# Altium integrated library ST Video TV Interface Circuit.IntLib: 3 symbols
Pins are listed as number, name and electrical type; pins without a type are passive.

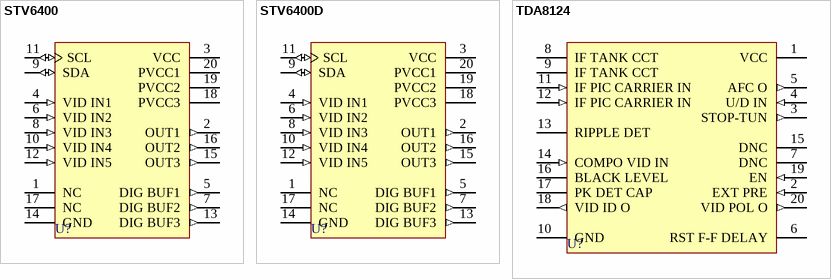
[diagram p0: symbols STV6400 to TDA8124]

## STV6400
designator U?
Double SCART Interface; Published: 24-Aug-2001; LatestRevisionDate: 17-Jul-2002; LatestRevisionNote: Re-released for DXP Platform.; DatasheetDocument: May-1996; PackageDocument: Jun-1998; PackageReference: DIP20; Publisher: Altium Limited; Code_JEDEC: MS-015-AE
footprint DIP20 (DIP; 20 Leads; Row Spacing 7.62 mm; Pitch 2.54 mm)
pins: 1 NC, 2 OUT1 (out), 3 VCC (power), 4 VID IN1 (in), 5 DIG BUF1 (out), 6 VID IN2 (in), 7 DIG BUF2 (out), 8 VID IN3 (in), 9 SDA (io), 10 VID IN4 (in), 11 SCL (io), 12 VID IN5 (in), 13 DIG BUF3 (out), 14 GND (power), 15 OUT3 (out), 16 OUT2 (out), 17 NC, 18 PVCC3 (power), 19 PVCC2 (power), 20 PVCC1 (power)

## STV6400D
designator U?
Double SCART Interface; Published: 24-Aug-2001; LatestRevisionDate: 17-Jul-2002; LatestRevisionNote: Re-released for DXP Platform.; DatasheetDocument: May-1996; PackageDocument: Jul-2001; PackageReference: SO20; Publisher: Altium Limited; Code_JEDEC: MS-013-AC; Code_IPC: SO20W
footprint SO20 (Small Outline, Plastic; 20 Leads; Body Width 7.5 mm; Pitch 1.27 mm)
pins: 1 NC, 2 OUT1 (out), 3 VCC (power), 4 VID IN1 (in), 5 DIG BUF1 (out), 6 VID IN2 (in), 7 DIG BUF2 (out), 8 VID IN3 (in), 9 SDA (io), 10 VID IN4 (in), 11 SCL (io), 12 VID IN5 (in), 13 DIG BUF3 (out), 14 GND (power), 15 OUT3 (out), 16 OUT2 (out), 17 NC, 18 PVCC3 (power), 19 PVCC2 (power), 20 PVCC1 (power)

## TDA8124
designator U?
Multistandard Video IF Interface; Note: Do Not Connect (DNC) pins 7 and 15.; Published: 24-Aug-2001; LatestRevisionDate: 17-Jul-2002; LatestRevisionNote: Re-released for DXP Platform.; DatasheetDocument: Oct-1993; PackageDocument: Jun-1998; PackageReference: DIP20; Publisher: Altium Limited; Code_JEDEC: MS-015-AE
footprint DIP20 (DIP; 20 Leads; Row Spacing 7.62 mm; Pitch 2.54 mm)
pins: 1 VCC (power), 2 EXT PRE (in), 3 STOP-TUN (out), 4 U/D IN (in), 5 AFC O (out), 6 RST F-F DELAY, 7 DNC, 8 IF TANK CCT, 9 IF TANK CCT, 10 GND (power), 11 IF PIC CARRIER IN (in), 12 IF PIC CARRIER IN (in), 13 RIPPLE DET, 14 COMPO VID IN (in), 15 DNC, 16 BLACK LEVEL, 17 PK DET CAP, 18 VID ID O (out), 19 EN (in), 20 VID POL O (out)